# Altium footprint library Resistor_THT.PcbLib: 104 footprints (part 5 of 7)
Each footprint in its own frame and in the unit in brackets; x right, y up, seen from the top. Pads: shape width x height; smd on the part's side, far side on the other; paste and mask are expansions set on the pad; w line width, h text height; cw(c..) or ccw(c..) is an arc to the next point about the centre after c.
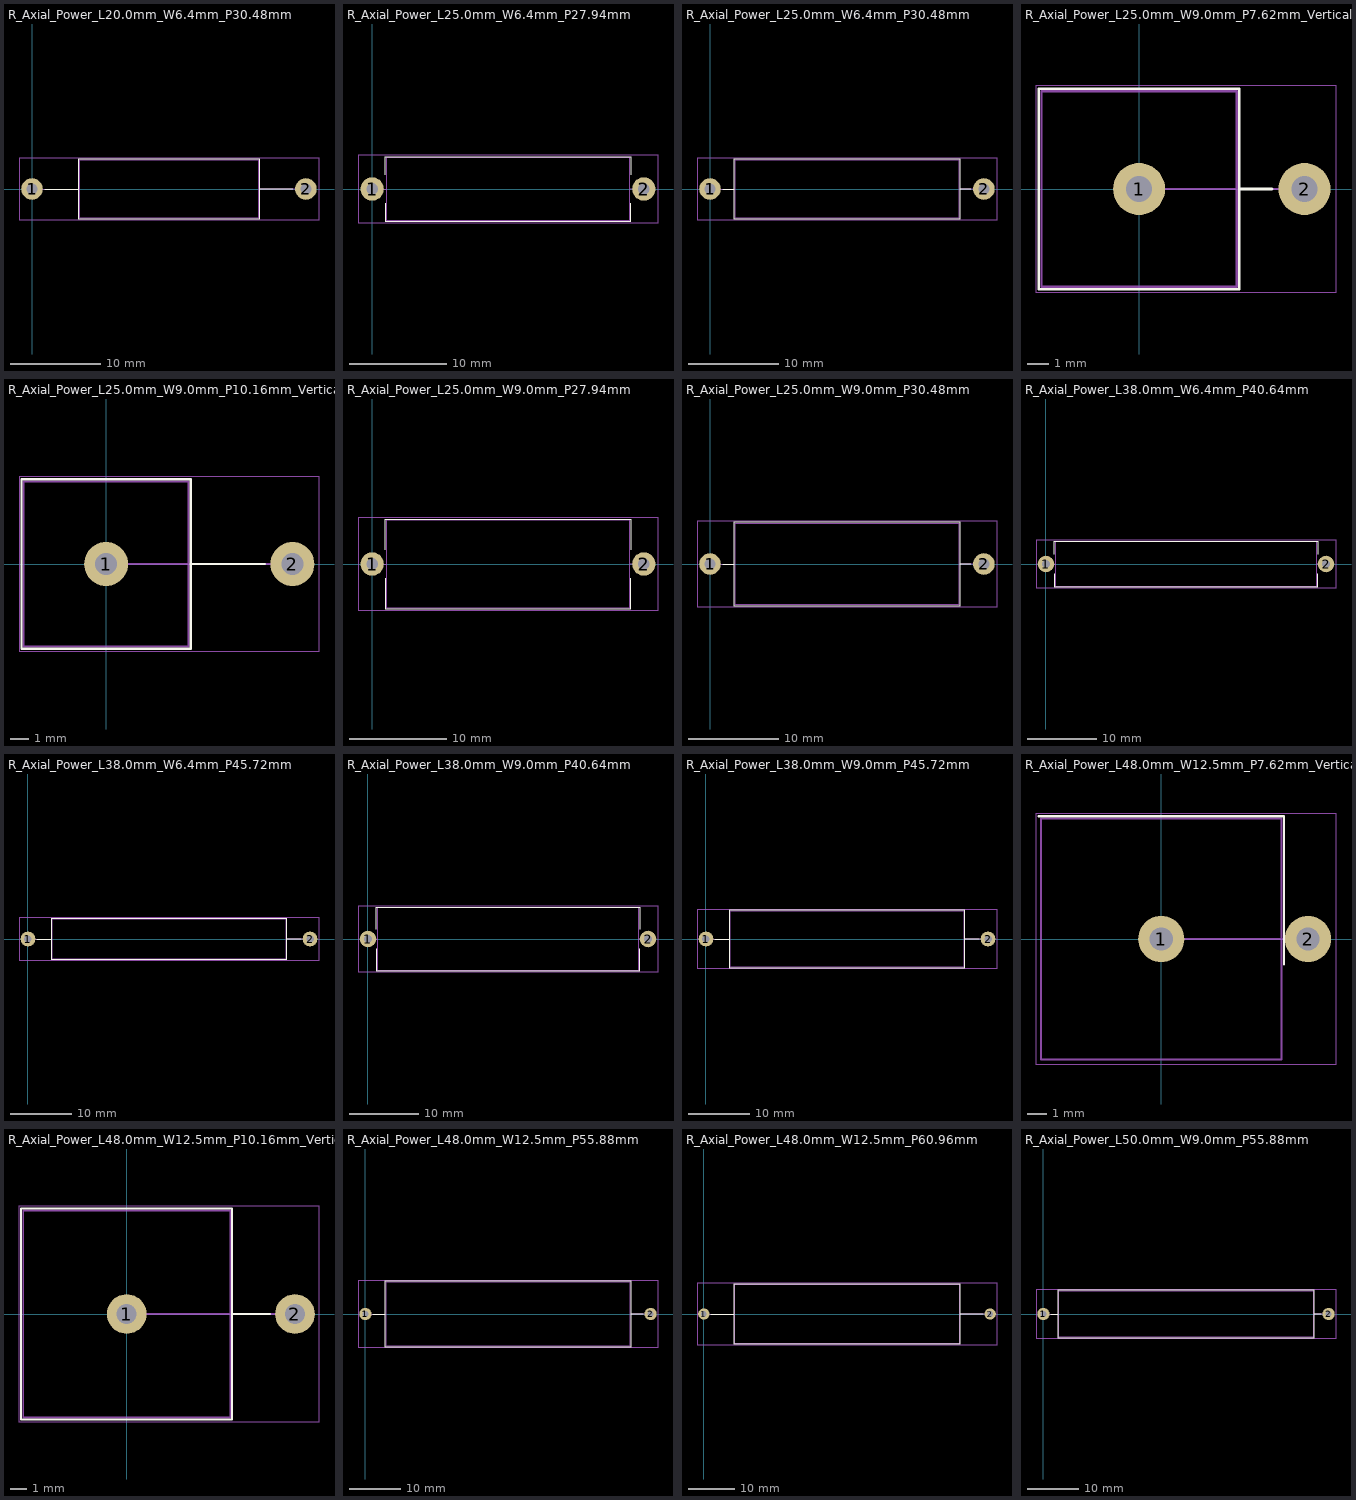
[diagram p4: the footprints below, top view; thin cyan lines are the x and y axes]

## R_Axial_Power_L20.0mm_W6.4mm_P30.48mm [mm]
pads (2):
  round 2.4 hole 1.2: 1(0,0)
  rrect100% 2.4x2.4 hole 1.2: 2(30.48,0)
F.SilkS:
  lines w0.12: 1.44,0 5.12,0 ; 25.36,0 29.04,0 ; 5.12,-3.32 25.36,-3.32 25.36,3.32 5.12,3.32 5.12,-3.32
F.CrtYd:
  lines w0.05: -1.45,-3.45 -1.45,3.45 31.94,3.45 31.94,-3.45 -1.45,-3.45
F.Fab:
  lines w0.1: 0,0 5.24,0 ; 25.24,0 30.48,0 ; 5.24,-3.2 5.24,3.2 25.24,3.2 25.24,-3.2 5.24,-3.2
  text "'.Designator'" at 11.193,-0.84 h1

## R_Axial_Power_L25.0mm_W6.4mm_P27.94mm [mm]
pads (2):
  round 2.4 hole 1.2: 1(0,0)
  rrect100% 2.4x2.4 hole 1.2: 2(27.94,0)
F.SilkS:
  lines w0.12: 1.35,-1.44 1.35,-3.32 26.59,-3.32 26.59,-1.44 ; 1.35,1.44 1.35,3.32 26.59,3.32 26.59,1.44
F.CrtYd:
  lines w0.05: -1.45,-3.45 -1.45,3.45 29.39,3.45 29.39,-3.45 -1.45,-3.45
F.Fab:
  lines w0.1: 0,0 1.47,0 ; 26.47,0 27.94,0 ; 1.47,-3.2 26.47,-3.2 26.47,3.2 1.47,3.2 1.47,-3.2
  text "'.Designator'" at 9.923,-0.84 h1

## R_Axial_Power_L25.0mm_W6.4mm_P30.48mm [mm]
pads (2):
  round 2.4 hole 1.2: 1(0,0)
  rrect100% 2.4x2.4 hole 1.2: 2(30.48,0)
F.SilkS:
  lines w0.12: 1.44,0 2.62,0 ; 27.86,0 29.04,0 ; 2.62,-3.32 2.62,3.32 27.86,3.32 27.86,-3.32 2.62,-3.32
F.CrtYd:
  lines w0.05: -1.45,-3.45 -1.45,3.45 31.94,3.45 31.94,-3.45 -1.45,-3.45
F.Fab:
  lines w0.1: 0,0 2.74,0 ; 27.74,0 30.48,0 ; 2.74,-3.2 2.74,3.2 27.74,3.2 27.74,-3.2 2.74,-3.2
  text "'.Designator'" at 11.193,-0.84 h1

## R_Axial_Power_L25.0mm_W9.0mm_P7.62mm_Vertical [mm]
pads (2):
  round 2.4 hole 1.2: 1(0,0)
  rrect100% 2.4x2.4 hole 1.2: 2(7.62,0)
F.SilkS:
  lines w0.12: 4.62,0 6.12,0 ; -4.62,-4.62 4.62,-4.62 4.62,4.62 -4.62,4.62 -4.62,-4.62
F.CrtYd:
  lines w0.05: -4.75,-4.75 9.07,-4.75 9.07,4.75 -4.75,4.75 -4.75,-4.75
F.Fab:
  lines w0.1: 0,0 7.62,0 ; -4.5,-4.5 -4.5,4.5 4.5,4.5 4.5,-4.5 -4.5,-4.5
  text "'.Designator'" at -4.047,0.86 h1

## R_Axial_Power_L25.0mm_W9.0mm_P10.16mm_Vertical [mm]
pads (2):
  round 2.4 hole 1.2: 1(0,0)
  rrect100% 2.4x2.4 hole 1.2: 2(10.16,0)
F.SilkS:
  lines w0.12: 4.62,0 8.66,0 ; -4.62,-4.62 4.62,-4.62 4.62,4.62 -4.62,4.62 -4.62,-4.62
F.CrtYd:
  lines w0.05: -4.75,-4.75 -4.75,4.75 11.61,4.75 11.61,-4.75 -4.75,-4.75
F.Fab:
  lines w0.1: 0,0 10.16,0 ; -4.5,-4.5 -4.5,4.5 4.5,4.5 4.5,-4.5 -4.5,-4.5
  text "'.Designator'" at -4.047,0.86 h1

## R_Axial_Power_L25.0mm_W9.0mm_P27.94mm [mm]
pads (2):
  round 2.4 hole 1.2: 1(0,0)
  rrect100% 2.4x2.4 hole 1.2: 2(27.94,0)
F.SilkS:
  lines w0.12: 1.35,-1.44 1.35,-4.62 26.59,-4.62 26.59,-1.44 ; 1.35,1.44 1.35,4.62 26.59,4.62 26.59,1.44
F.CrtYd:
  lines w0.05: -1.45,-4.75 29.39,-4.75 29.39,4.75 -1.45,4.75 -1.45,-4.75
F.Fab:
  lines w0.1: 0,0 1.47,0 ; 26.47,0 27.94,0 ; 1.47,-4.5 26.47,-4.5 26.47,4.5 1.47,4.5 1.47,-4.5
  text "'.Designator'" at 9.923,-0.84 h1

## R_Axial_Power_L25.0mm_W9.0mm_P30.48mm [mm]
pads (2):
  round 2.4 hole 1.2: 1(0,0)
  rrect100% 2.4x2.4 hole 1.2: 2(30.48,0)
F.SilkS:
  lines w0.12: 1.44,0 2.62,0 ; 27.86,0 29.04,0 ; 2.62,-4.62 2.62,4.62 27.86,4.62 27.86,-4.62 2.62,-4.62
F.CrtYd:
  lines w0.05: -1.45,-4.75 -1.45,4.75 31.94,4.75 31.94,-4.75 -1.45,-4.75
F.Fab:
  lines w0.1: 0,0 2.74,0 ; 27.74,0 30.48,0 ; 2.74,-4.5 2.74,4.5 27.74,4.5 27.74,-4.5 2.74,-4.5
  text "'.Designator'" at 11.193,-0.84 h1

## R_Axial_Power_L38.0mm_W6.4mm_P40.64mm [mm]
pads (2):
  round 2.4 hole 1.2: 1(0,0)
  rrect100% 2.4x2.4 hole 1.2: 2(40.64,0)
F.SilkS:
  lines w0.12: 1.2,-1.44 1.2,-3.32 39.44,-3.32 39.44,-1.44 ; 1.2,1.44 1.2,3.32 39.44,3.32 39.44,1.44
F.CrtYd:
  lines w0.05: -1.45,-3.45 42.09,-3.45 42.09,3.45 -1.45,3.45 -1.45,-3.45
F.Fab:
  lines w0.1: 0,0 1.32,0 ; 39.32,0 40.64,0 ; 1.32,-3.2 1.32,3.2 39.32,3.2 39.32,-3.2 1.32,-3.2
  text "'.Designator'" at 16.273,-0.84 h1

## R_Axial_Power_L38.0mm_W6.4mm_P45.72mm [mm]
pads (2):
  round 2.4 hole 1.2: 1(0,0)
  rrect100% 2.4x2.4 hole 1.2: 2(45.72,0)
F.SilkS:
  lines w0.12: 1.44,0 3.74,0 ; 41.98,0 44.28,0 ; 3.74,-3.32 41.98,-3.32 41.98,3.32 3.74,3.32 3.74,-3.32
F.CrtYd:
  lines w0.05: -1.45,-3.45 -1.45,3.45 47.17,3.45 47.17,-3.45 -1.45,-3.45
F.Fab:
  lines w0.1: 0,0 3.86,0 ; 41.86,0 45.72,0 ; 3.86,-3.2 3.86,3.2 41.86,3.2 41.86,-3.2 3.86,-3.2
  text "'.Designator'" at 18.813,-0.84 h1

## R_Axial_Power_L38.0mm_W9.0mm_P40.64mm [mm]
pads (2):
  round 2.4 hole 1.2: 1(0,0)
  rrect100% 2.4x2.4 hole 1.2: 2(40.64,0)
F.SilkS:
  lines w0.12: 1.2,-1.44 1.2,-4.62 39.44,-4.62 39.44,-1.44 ; 1.2,1.44 1.2,4.62 39.44,4.62 39.44,1.44
F.CrtYd:
  lines w0.05: -1.45,-4.75 -1.45,4.75 42.09,4.75 42.09,-4.75 -1.45,-4.75
F.Fab:
  lines w0.1: 0,0 1.32,0 ; 39.32,0 40.64,0 ; 1.32,-4.5 1.32,4.5 39.32,4.5 39.32,-4.5 1.32,-4.5
  text "'.Designator'" at 16.273,-0.84 h1

## R_Axial_Power_L38.0mm_W9.0mm_P45.72mm [mm]
pads (2):
  round 2.4 hole 1.2: 1(0,0)
  rrect100% 2.4x2.4 hole 1.2: 2(45.72,0)
F.SilkS:
  lines w0.12: 1.44,0 3.74,0 ; 41.98,0 44.28,0 ; 3.74,-4.62 3.74,4.62 41.98,4.62 41.98,-4.62 3.74,-4.62
F.CrtYd:
  lines w0.05: -1.45,-4.75 47.17,-4.75 47.17,4.75 -1.45,4.75 -1.45,-4.75
F.Fab:
  lines w0.1: 0,0 3.86,0 ; 41.86,0 45.72,0 ; 3.86,-4.5 3.86,4.5 41.86,4.5 41.86,-4.5 3.86,-4.5
  text "'.Designator'" at 18.813,-0.84 h1

## R_Axial_Power_L48.0mm_W12.5mm_P7.62mm_Vertical [mm]
pads (2):
  round 2.4 hole 1.2: 1(0,0)
  rrect100% 2.4x2.4 hole 1.2: 2(7.62,0)
F.SilkS:
  lines w0.12: 6.37,-1.32 6.37,6.37 ; 6.37,1.32 6.37,6.37 ; 6.37,6.37 -6.37,6.37 6.37,6.37
F.CrtYd:
  lines w0.05: -6.5,-6.5 9.07,-6.5 9.07,6.5 -6.5,6.5 -6.5,-6.5
F.Fab:
  lines w0.1: 0,0 7.62,0 ; -6.25,-6.25 6.25,-6.25 6.25,6.25 -6.25,6.25 -6.25,-6.25
  text "'.Designator'" at -4.047,0.86 h1

## R_Axial_Power_L48.0mm_W12.5mm_P10.16mm_Vertical [mm]
pads (2):
  round 2.4 hole 1.2: 1(0,0)
  rrect100% 2.4x2.4 hole 1.2: 2(10.16,0)
F.SilkS:
  lines w0.12: 6.37,0 8.66,0 ; -6.37,-6.37 6.37,-6.37 6.37,6.37 -6.37,6.37 -6.37,-6.37
F.CrtYd:
  lines w0.05: -6.5,-6.5 -6.5,6.5 11.61,6.5 11.61,-6.5 -6.5,-6.5
F.Fab:
  lines w0.1: 0,0 10.16,0 ; -6.25,-6.25 -6.25,6.25 6.25,6.25 6.25,-6.25 -6.25,-6.25
  text "'.Designator'" at -4.047,0.86 h1

## R_Axial_Power_L48.0mm_W12.5mm_P55.88mm [mm]
pads (2):
  round 2.4 hole 1.2: 1(0,0)
  rrect100% 2.4x2.4 hole 1.2: 2(55.88,0)
F.SilkS:
  lines w0.12: 1.44,0 3.82,0 ; 52.06,0 54.44,0 ; 3.82,-6.37 3.82,6.37 52.06,6.37 52.06,-6.37 3.82,-6.37
F.CrtYd:
  lines w0.05: -1.45,-6.5 -1.45,6.5 57.33,6.5 57.33,-6.5 -1.45,-6.5
F.Fab:
  lines w0.1: 0,0 3.94,0 ; 51.94,0 55.88,0 ; 3.94,-6.25 3.94,6.25 51.94,6.25 51.94,-6.25 3.94,-6.25
  text "'.Designator'" at 23.893,-0.84 h1

## R_Axial_Power_L48.0mm_W12.5mm_P60.96mm [mm]
pads (2):
  round 2.4 hole 1.2: 1(0,0)
  rrect100% 2.4x2.4 hole 1.2: 2(60.96,0)
F.SilkS:
  lines w0.12: 1.44,0 6.36,0 ; 54.6,0 59.52,0 ; 6.36,-6.37 6.36,6.37 54.6,6.37 54.6,-6.37 6.36,-6.37
F.CrtYd:
  lines w0.05: -1.45,-6.5 -1.45,6.5 62.41,6.5 62.41,-6.5 -1.45,-6.5
F.Fab:
  lines w0.1: 0,0 6.48,0 ; 54.48,0 60.96,0 ; 6.48,-6.25 54.48,-6.25 54.48,6.25 6.48,6.25 6.48,-6.25
  text "'.Designator'" at 26.433,-0.84 h1

## R_Axial_Power_L50.0mm_W9.0mm_P55.88mm [mm]
pads (2):
  round 2.4 hole 1.2: 1(0,0)
  rrect100% 2.4x2.4 hole 1.2: 2(55.88,0)
F.SilkS:
  lines w0.12: 1.44,0 2.82,0 ; 53.06,0 54.44,0 ; 2.82,-4.62 53.06,-4.62 53.06,4.62 2.82,4.62 2.82,-4.62
F.CrtYd:
  lines w0.05: -1.45,-4.75 -1.45,4.75 57.33,4.75 57.33,-4.75 -1.45,-4.75
F.Fab:
  lines w0.1: 0,0 2.94,0 ; 52.94,0 55.88,0 ; 2.94,-4.5 2.94,4.5 52.94,4.5 52.94,-4.5 2.94,-4.5
  text "'.Designator'" at 23.893,-0.84 h1